# Altium footprint library TRANS.PcbLib: 3 footprints
Each footprint in its own frame and in the unit in brackets; x right, y up, seen from the top. Pads: shape width x height; smd on the part's side, far side on the other; paste and mask are expansions set on the pad; w line width, h text height; cw(c..) or ccw(c..) is an arc to the next point about the centre after c.
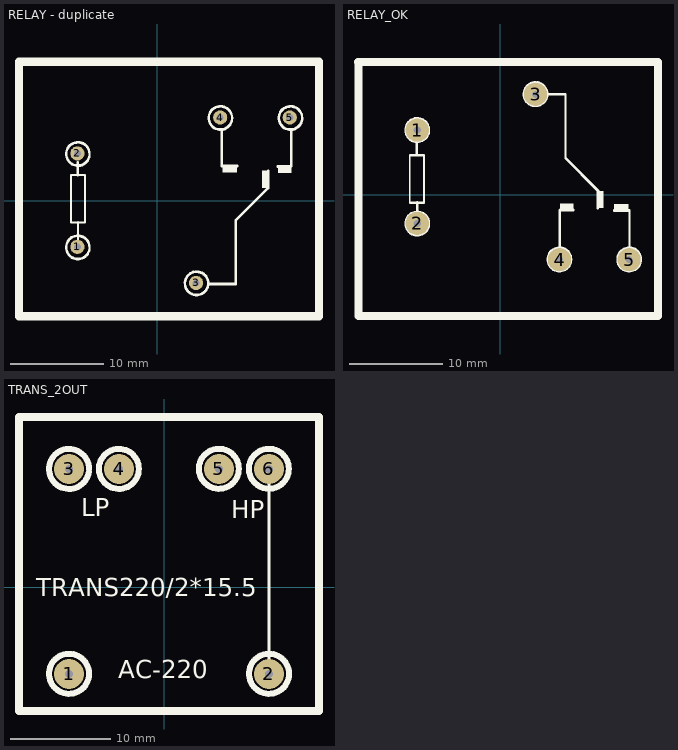
[diagram p0: the footprints below, top view; thin cyan lines are the x and y axes]

## RELAY - duplicate [mil]
pads (5):
  round 60 hole 30: 1(-336.46,-195.08) 2(-336.46,198.62) 3(163.54,-347.05) 4(265.12,349.8) 5(558.43,349.8)
Top Overlay:
  rectangle: 508.19,118.5 565.28,144.09
  rectangle: 275.91,120.47 336.93,146.06
  rectangle: 441.26,55.51 466.85,126.38
  rectangle: 441.26,53.54 466.85,124.41
  rectangle: 275.91,118.5 336.93,144.09
  rectangle: 508.19,116.54 565.28,142.13
  lines w7.87: -363.62,-93.15 -333.62,-93.15 -303.62,-93.15 -303.62,106.85 -363.62,106.85 -363.62,-93.15 ; -363.62,-91.18 -363.62,108.82 -303.62,108.82 -303.62,-91.18 -333.62,-91.18 -363.62,-91.18
  lines w10: -334.33,106.85 -334.33,159.84 ; -334.33,108.82 -334.33,161.81 ; -333.62,-164.25 -333.62,-93.15 ; -333.62,-162.28 -333.62,-91.18 ; -285.5,-204.53 cw(c-334.33,-198.43) -285.12,-198.43 ; -285.5,-202.56 cw(c-334.33,-196.46) -285.12,-196.46 ; -285.5,189.17 cw(c-334.33,195.28) -285.12,195.28 ; -285.5,191.14 cw(c-334.33,197.24) -285.12,197.24 ; 214.5,-356.1 cw(c165.67,-350) 214.88,-350 331.02,-350 331.02,-82.28 466.85,53.54 466.85,126.38 ; 214.5,-354.14 cw(c165.67,-348.03) 214.88,-348.03 ; 214.88,-351.97 331.02,-351.97 331.02,-84.25 466.85,51.57 466.85,124.41 ; 271.97,297.64 271.97,144.09 336.93,144.09 ; 271.97,299.61 271.97,146.06 336.93,146.06 ; 314.9,340.75 cw(c266.06,346.85) 315.28,346.85 ; 314.9,342.71 cw(c266.06,348.82) 315.28,348.82 ; 508.19,142.13 563.31,142.13 565.28,144.09 565.28,299.61 ; 508.19,144.09 563.31,144.09 565.28,146.06 565.28,301.57 ; 610.17,340.75 cw(c561.34,346.85) 610.55,346.85 ; 610.17,342.71 cw(c561.34,348.82) 610.55,348.82
  lines w33.46: -582.36,-487.8 -582.36,583.07 268.03,583.07 681.42,583.07 681.42,-487.8 -582.36,-487.8 ; -582.36,-485.83 681.42,-485.83 681.42,585.04 268.03,585.04 -582.36,585.04 -582.36,-485.83

## RELAY_OK [mm]
pads (5):
  round 2.5 hole 0.762: 1(-8.89,6.951) 2(-8.89,-3.049) 3(3.778,10.779) 4(6.35,-6.929) 5(13.8,-6.929)
Bottom Layer:
  lines w0.254: -8.922,-12.922 -8.89,-12.954 ; -3.302,-12.954 5.969,-12.954
Top Overlay:
  region: 11.085,0.429 10.435,0.429 10.435,-1.371 11.085,-1.371
  region: 11.085,0.379 10.435,0.379 10.435,-1.421 11.085,-1.421
  region: 7.843,-0.938 6.393,-0.938 6.393,-1.588 7.843,-1.588
  region: 13.743,-0.988 12.193,-0.988 12.193,-1.638 13.743,-1.638
  region: 13.743,-1.038 12.193,-1.038 12.193,-1.688 13.743,-1.688
  region: 7.843,-0.988 6.393,-0.988 6.393,-1.638 7.843,-1.638
  lines w0.2: -9.692,-0.843 -8.168,-0.843 -8.168,4.237 -8.93,4.237 -9.692,4.237 -9.692,-0.843 ; -9.692,-0.793 -9.692,4.287 -8.93,4.287 -8.168,4.287 -8.168,-0.793 -9.692,-0.793
  lines w0.254: -10.142,6.931 ccw(c-8.892,6.931) -10.132,7.086 ; -10.142,6.981 ccw(c-8.892,6.981) -10.132,7.136 ; -10.132,-3.089 ccw(c-8.882,-3.089) -10.122,-2.934 ; -10.132,-3.039 ccw(c-8.882,-3.039) -10.122,-2.884 ; -8.93,4.237 -8.93,6.043 ; -8.93,4.287 -8.93,6.093 ; -8.912,-2.189 -8.912,-0.843 ; -8.912,-2.139 -8.912,-0.793 ; 5.02,10.624 cw(c3.78,10.779) 5.03,10.779 ; 5.02,10.674 cw(c3.78,10.829) 5.03,10.829 ; 5.05,10.779 6.985,10.779 6.985,3.979 ; 6.393,-5.638 6.393,-1.688 6.443,-1.638 7.843,-1.638 ; 6.393,-5.588 6.393,-1.638 6.443,-1.588 7.843,-1.588 ; 6.985,10.729 6.985,3.929 10.435,0.479 10.435,-1.371 ; 7.035,3.929 10.485,0.479 ; 7.582,-7.084 cw(c6.342,-6.929) 7.592,-6.929 ; 7.582,-7.034 cw(c6.342,-6.879) 7.592,-6.879 ; 10.435,-1.421 10.435,0.429 ; 12.193,-1.688 13.843,-1.688 13.843,-5.588 ; 12.193,-1.638 13.843,-1.638 13.843,-5.538 ; 15.052,-7.084 cw(c13.812,-6.929) 15.062,-6.929 ; 15.052,-7.034 cw(c13.812,-6.879) 15.062,-6.879
  lines w0.85: -15.24,14.241 16.9,14.241 16.9,-12.959 -15.2,-12.959 -15.2,14.241

## TRANS_2OUT [mm]
pads (6):
  round 3 hole 0.762: 1(-9.528,-8.673) 2(10.472,-8.673) 3(-9.528,11.827) 4(-4.528,11.827) 5(5.472,11.827) 6(10.472,11.827)
Top Overlay:
  lines w0.254: 10.472,-8.673 10.472,11.827
  lines w0.6: -7.543,-8.901 cw(c-9.528,-8.653) -7.528,-8.653 ; -7.543,11.579 cw(c-9.528,11.827) -7.528,11.827 ; -2.553,11.589 cw(c-4.538,11.837) -2.538,11.837 ; 7.447,11.599 cw(c5.462,11.847) 7.462,11.847 ; 12.447,11.599 cw(c10.462,11.847) 12.462,11.847 ; 12.457,-8.901 cw(c10.472,-8.653) 12.472,-8.653
  lines w0.8: -14.528,-12.353 15.472,-12.353 15.472,-11.353 15.472,17 -14.528,17 -14.528,-11.353 -14.528,-12.353
  text "HP" at 6.7,6.88 h1.8
  text "LP" at -8.3,7.08 h1.8
  text "AC-220" at -4.6,-9.1 h1.8
  text "TRANS220/2*15.5" at -12.8,-0.9 h1.8